# Altium footprint library LCD_4.5.PcbLib: 13 footprints
Each footprint in its own frame and in the unit in brackets; x right, y up, seen from the top. Pads: shape width x height; smd on the part's side, far side on the other; paste and mask are expansions set on the pad; w line width, h text height; cw(c..) or ccw(c..) is an arc to the next point about the centre after c.
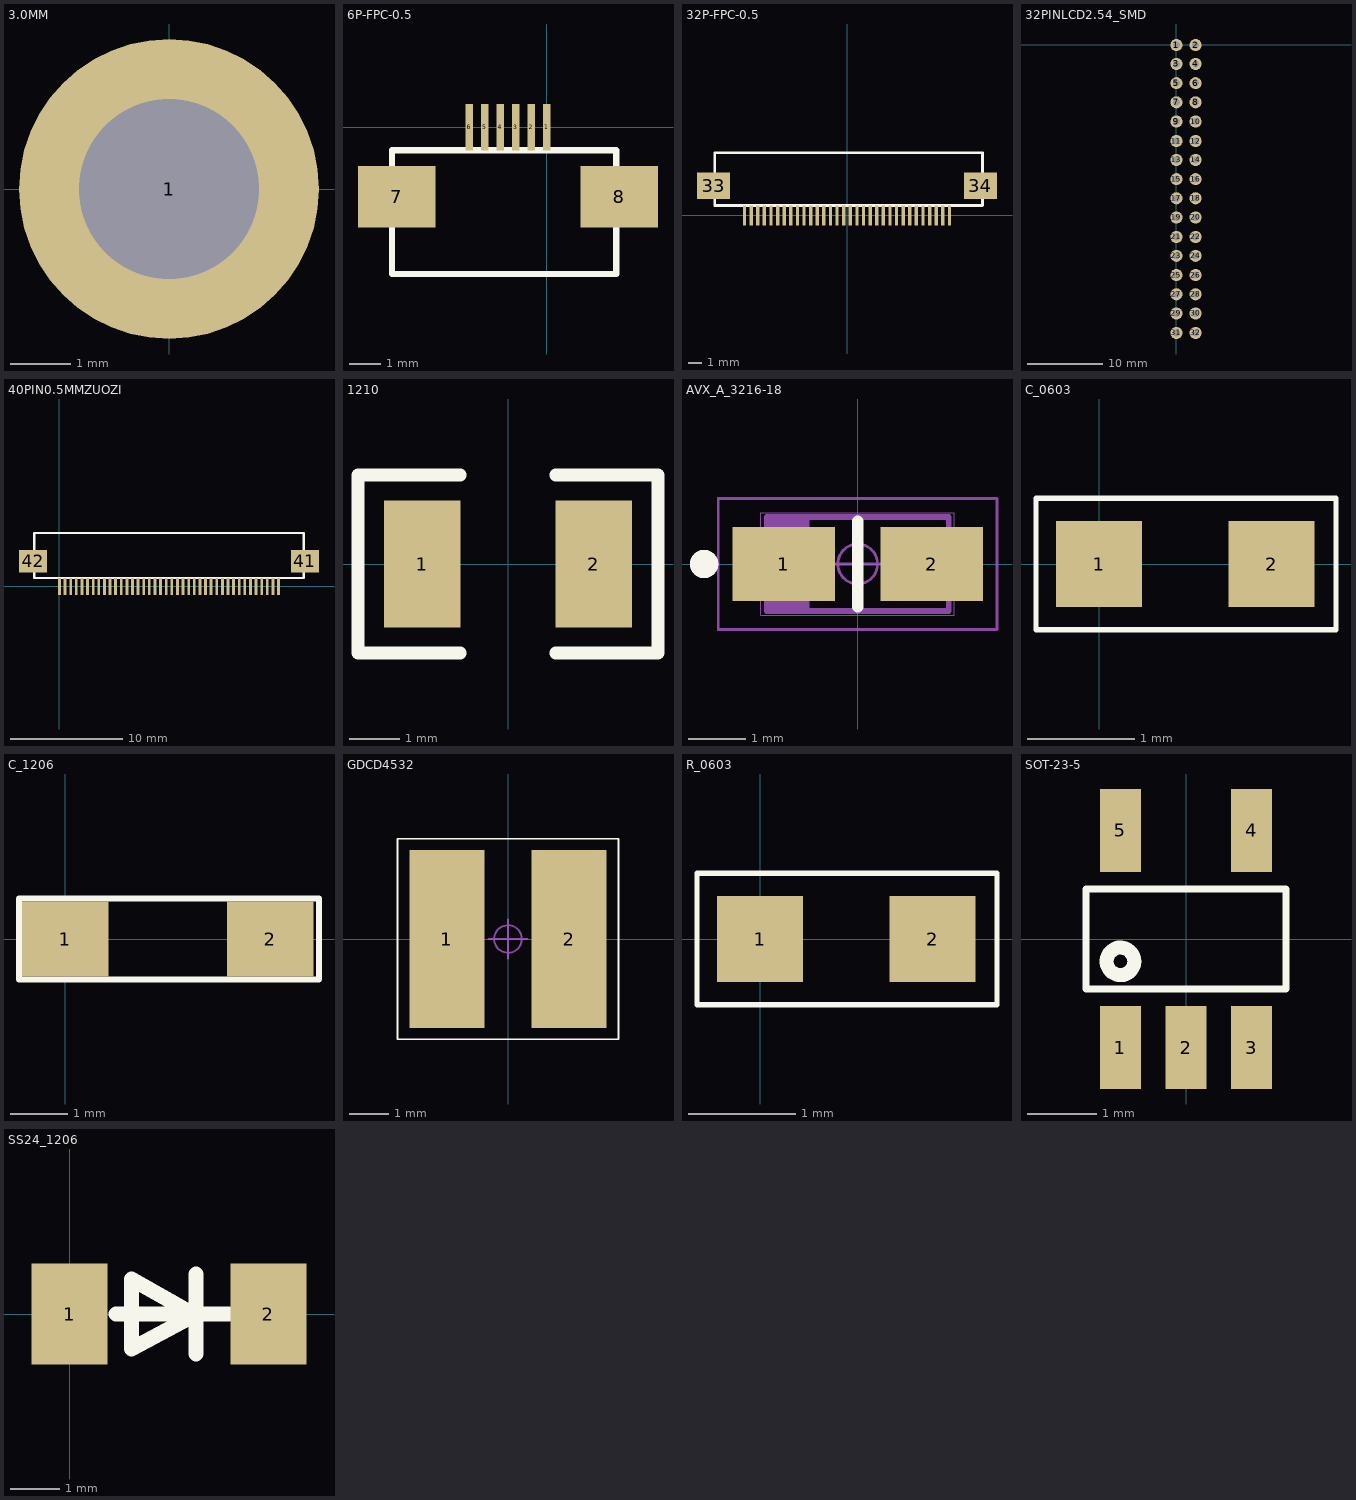
[diagram p0: the footprints below, top view; thin cyan lines are the x and y axes]

## 3.0MM [mm]
pads (1):
  round 5 hole 3: 1(0,0)

## 6P-FPC-0.5 [mm]
pads (8):
  rect 0.25x1.5 smd: 1(0,0) 2(-0.5,0) 3(-1,0) 4(-1.5,0) 5(-2,0) 6(-2.5,0)
  rect 2.5x2 smd: 7(-4.85,-2.25) 8(2.35,-2.25)
Top Overlay:
  lines w0.2: -5,-4.75 2.25,-4.75 2.25,-0.75 -5,-0.75 -5,-4.75

## 32P-FPC-0.5 [mm]
pads (34):
  rect 0.25x1.5 smd: 1(-7.75,0) 2(-7.25,0) 3(-6.75,0) 4(-6.25,0) 5(-5.75,0) 6(-5.25,0) 7(-4.75,0) 8(-4.25,0) 9(-3.75,0) 10(-3.25,0) 11(-2.75,0) 12(-2.25,0) 13(-1.75,0) 14(-1.25,0) 15(-0.75,0) 16(-0.25,0) 17(0.25,0) 18(0.75,0) 19(1.25,0) 20(1.75,0) 21(2.25,0) 22(2.75,0) 23(3.25,0) 24(3.75,0) 25(4.25,0) 26(4.75,0) 27(5.25,0) 28(5.75,0) 29(6.25,0) 30(6.75,0) 31(7.25,0) 32(7.75,0)
  rect 2.5x2 smd: 33(-10.1,2.25) 34(10.1,2.25)
Top Overlay:
  lines w0.2: -10,0.75 -10,4.75 10.25,4.75 10.25,0.75 -10,0.75

## 32PINLCD2.54_SMD [mm]
pads (32):
  round 1.6 hole 0.9: 1(0,-0.04) 2(2.54,-0.04) 3(0,-2.54) 4(2.54,-2.54) 5(0,-5.08) 6(2.54,-5.08) 7(0,-7.62) 8(2.54,-7.62) 9(0,-10.16) 10(2.54,-10.16) 11(0,-12.74) 12(2.54,-12.74) 13(0,-15.24) 14(2.54,-15.24) 15(0,-17.78) 16(2.54,-17.78) 17(0,-20.32) 18(2.54,-20.32) 19(0,-22.86) 20(2.54,-22.86) 21(0,-25.44) 22(2.54,-25.44) 23(0,-27.94) 24(2.54,-27.94) 25(0,-30.48) 26(2.54,-30.48) 27(0,-33.02) 28(2.54,-33.02) 29(0,-35.56) 30(2.54,-35.56) 31(0,-38.14) 32(2.54,-38.14)

## 40PIN0.5MMZUOZI [mm]
pads (42):
  rect 0.25x1.5 smd: 1(0,0) 2(0.5,0) 3(1,0) 4(1.5,0) 5(2,0) 6(2.5,0) 7(3,0) 8(3.5,0) 9(4,0) 10(4.5,0) 11(5,0) 12(5.5,0) 13(6,0) 14(6.5,0) 15(7,0) 16(7.5,0) 17(8,0) 18(8.5,0) 19(9,0) 20(9.5,0) 21(10,0) 22(10.5,0) 23(11,0) 24(11.5,0) 25(12,0) 26(12.5,0) 27(13,0) 28(13.5,0) 29(14,0) 30(14.5,0) 31(15,0) 32(15.5,0) 33(16,0) 34(16.5,0) 35(17,0) 36(17.5,0) 37(18,0) 38(18.5,0) 39(19,0) 40(19.5,0)
  rect 2.5x2 smd: 41(21.85,2.25) 42(-2.35,2.25)
Top Overlay:
  lines w0.2: -2.25,0.75 -2.25,4.75 21.75,4.75 21.75,0.75 -2.25,0.75

## 1210 [mil]
pads (2):
  rect 60x100 smd: 1(-67.5,0) 2(67.5,0)
Top Overlay:
  lines w10: -37.5,-70 -118,-70 -118,70 -37.5,70 ; 37.5,-70 118,-70 118,70 37.5,70

## AVX_A_3216-18 [mm]
pads (2):
  rect 1.8x1.3 smd: 1(-1.3,0) 2(1.3,0)
Top Overlay:
  circle w0.25: c-2.7,0 r0.125
  lines w0.2: 0,-0.75 0,0.75
Mechanical 1:
  lines w0.1: -1.5,-0.825 -1.5,0.825 ; -1.4,-0.825 -1.4,0.825 ; -1.3,-0.825 -1.3,0.825 ; -1.2,-0.825 -1.2,0.825 ; -1.1,-0.825 -1.1,0.825 ; -1,-0.825 -1,0.825 ; -0.9,-0.825 -0.9,0.825 ; -1.6,-0.825 1.6,-0.825 1.6,0.825 -1.6,0.825 -1.6,-0.825
Mechanical 16:
  circle w0.05: c0,0 r0.35
  lines w0.001: -1.7,-0.9 1.7,-0.9 1.7,0.9 -1.7,0.9 -1.7,-0.9
  lines w0.05: -0.5,0 0.5,0 ; 0,-0.5 0,0.5 ; -2.45,-1.15 2.45,-1.15 2.45,1.15 -2.45,1.15 -2.45,-1.15

## C_0603 [mm]
pads (2):
  rect 0.8x0.8 smd: 1(0,0) 2(1.6,0)
Top Overlay:
  lines w0.051: -0.584,-0.61 2.197,-0.61 2.197,0.61 -0.584,0.61 -0.584,-0.61

## C_1206 [mm]
pads (2):
  rect 1.5x1.3 smd: 1(0,0) 2(3.556,0)
Top Overlay:
  lines w0.1: -0.8,-0.7 -0.8,0.7 4.4,0.7 4.4,-0.7 -0.8,-0.7

## GDCD4532 [mm]
pads (2):
  rect 1.9x4.5 smd: 1(-1.55,0) 2(1.55,0)
Top Overlay:
  lines w0.05: -2.794,-2.54 2.794,-2.54 2.794,2.54 -2.794,2.54 -2.794,-2.54
Mechanical 16:
  circle w0.05: c0,0 r0.35
  lines w0.05: -0.5,0 0.5,0 ; 0,-0.5 0,0.5

## R_0603 [mm]
pads (2):
  rect 0.8x0.8 smd: 1(0,0) 2(1.6,0)
Top Overlay:
  lines w0.051: -0.584,-0.61 2.197,-0.61 2.197,0.61 -0.584,0.61 -0.584,-0.61

## SOT-23-5 [mm]
pads (5):
  rect 0.6x1.2 smd: 1(-0.95,-1.575) 2(0,-1.575) 3(0.95,-1.575) 4(0.95,1.575) 5(-0.95,1.575)
Top Overlay:
  circle w0.203: c-0.95,-0.325 r0.2
  lines w0.102: -1.45,-0.725 1.45,-0.725 1.45,0.475 1.45,0.725 -1.45,0.725 -1.45,0.475 -1.45,-0.725

## SS24_1206 [mil]
pads (2):
  rect 60x80 smd: 1(0,0) 2(157.48,0)
Top Overlay:
  lines w12: 36.92,-0.13 125.98,-0.13 ; 100.17,-31.5 100.17,31.5 ; 49.17,-27.56 100.17,-0.13 100.17,-1.13 49.17,27.56 49.17,-27.56